# Altium footprint library ICs.PcbLib: 86 footprints (part 5 of 6)
Each footprint in its own frame and in the unit in brackets; x right, y up, seen from the top. Pads: shape width x height; smd on the part's side, far side on the other; paste and mask are expansions set on the pad; w line width, h text height; cw(c..) or ccw(c..) is an arc to the next point about the centre after c.
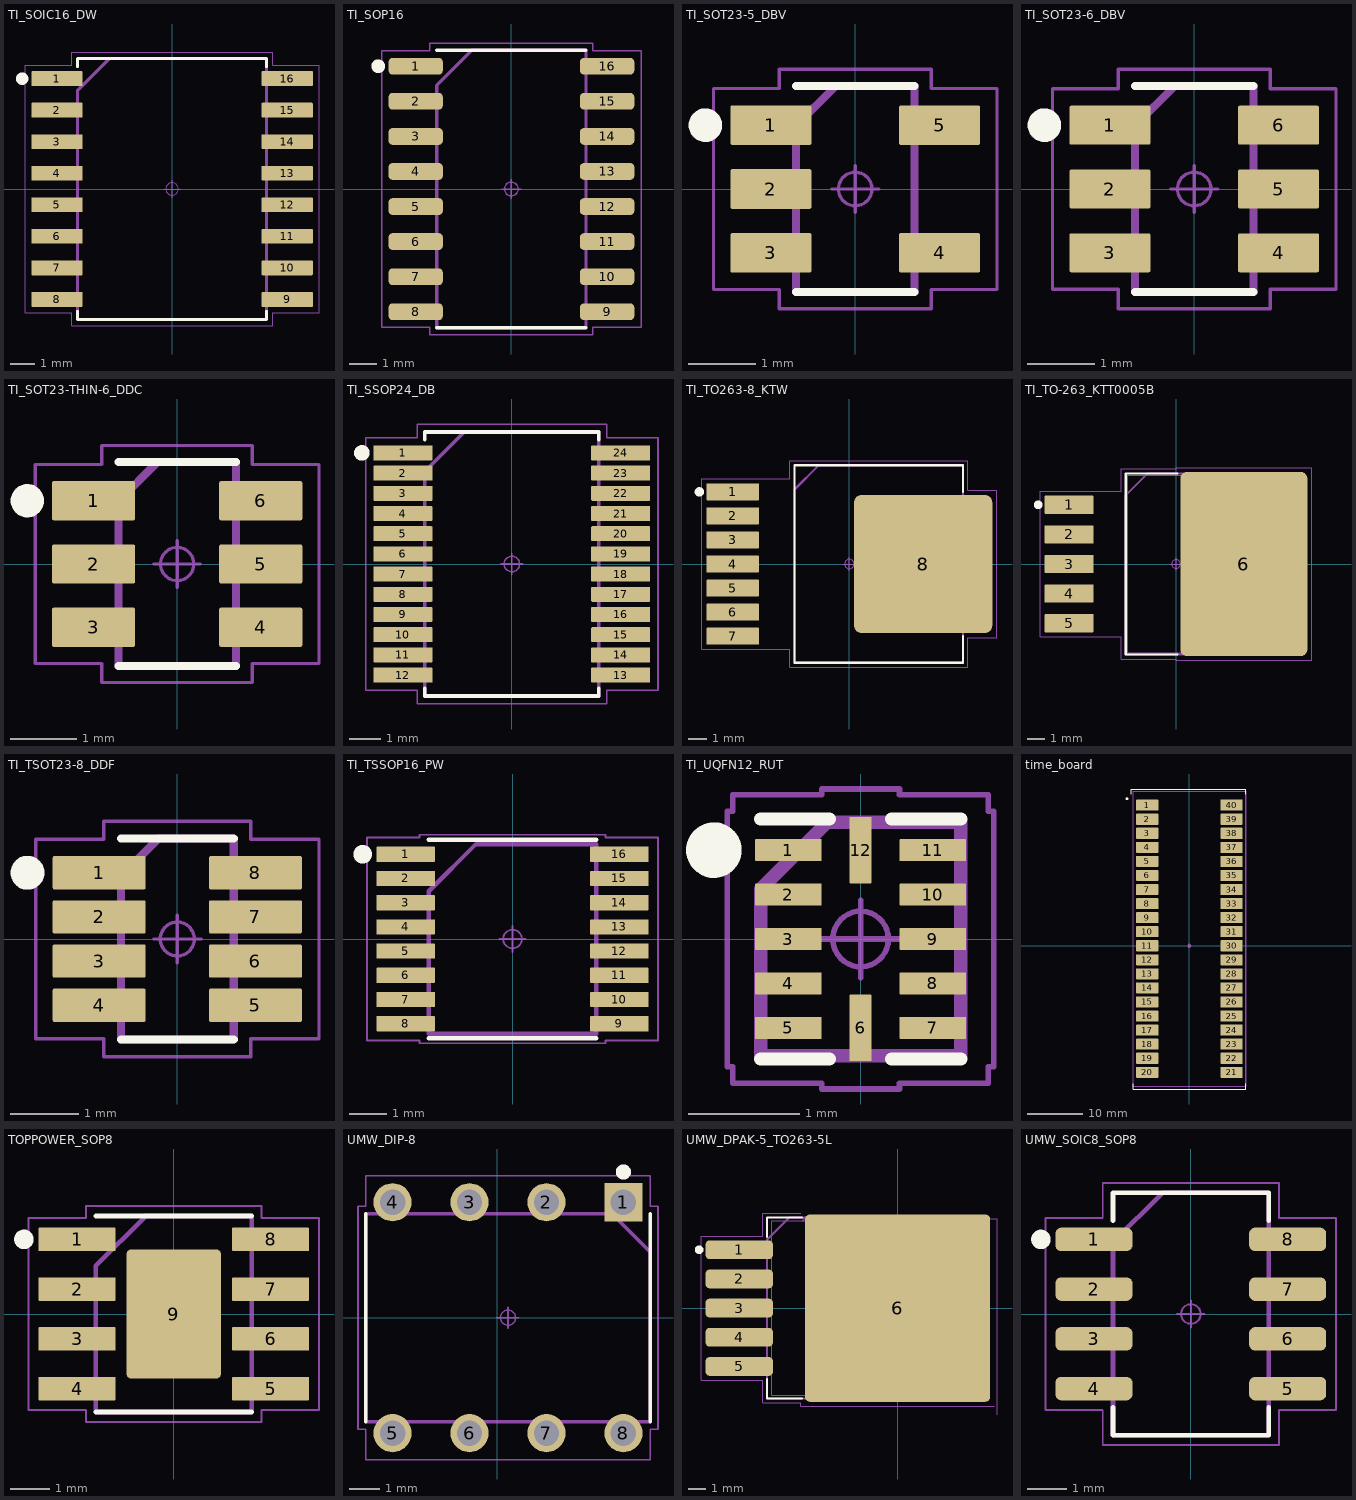
[diagram p4: the footprints below, top view; thin cyan lines are the x and y axes]

## TI_SOIC16_DW [mm] "Small Outline IC (SOIC), 1.27 mm pitch; 16 pin, 10.30 mm L X 7.50 mm W X 2.65 mm H body"
pads (16):
  rrect10% 2.06x0.6 smd: 1(-4.64,4.445) 2(-4.64,3.175) 3(-4.64,1.905) 4(-4.64,0.635) 5(-4.64,-0.635) 6(-4.64,-1.905) 7(-4.64,-3.175) 8(-4.64,-4.445) 9(4.64,-4.445) 10(4.64,-3.175) 11(4.64,-1.905) 12(4.64,-0.635) 13(4.64,0.635) 14(4.64,1.905) 15(4.64,3.175) 16(4.64,4.445)
Top Overlay:
  circle w0.25: c-6.04,4.445 r0.125
  lines w0.12: -3.8,-4.925 -3.8,-5.25 3.8,-5.25 3.8,-4.925 ; -3.8,4.925 -3.8,5.25 3.8,5.25 3.8,4.925
Mechanical 11:
  lines w0.12: -3.8,-5.25 3.8,-5.25 3.8,5.25 -2.53,5.25 -3.8,3.98 -3.8,-5.25
  text ".Designator" at -6.763,-0.679 h3
Mechanical 15:
  circle w0.05: c0,0 r0.25
  lines w0.05: -0.35,0 0.35,0 ; 0,-0.35 0,0.35 ; -5.92,-4.995 -4.05,-4.995 -4.05,-5.5 4.05,-5.5 4.05,-4.995 5.92,-4.995 5.92,4.995 4.05,4.995 4.05,5.5 -4.05,5.5 -4.05,4.995 -5.92,4.995 -5.92,-4.995
3D body "TI_SOIC16_DW.STEP": height 2.65, standoff 0, extent -5.315,-5.25 5.315,5.25

## TI_SOP16 [mm] "SOIC16P127_1002X780X200L80X43"
pads (16):
  rrect49% 1.97x0.61 smd: 1(-3.465,4.445) 2(-3.465,3.175) 3(-3.465,1.905) 4(-3.465,0.635) 5(-3.465,-0.635) 6(-3.465,-1.905) 7(-3.465,-3.175) 8(-3.465,-4.445) 9(3.465,-4.445) 10(3.465,-3.175) 11(3.465,-1.905) 12(3.465,-0.635) 13(3.465,0.635) 14(3.465,1.905) 15(3.465,3.175) 16(3.465,4.445)
Top Overlay:
  circle w0.25: c-4.82,4.445 r0.125
  lines w0.12: -2.7,-5.02 2.7,-5.02 ; -2.7,5.02 2.7,5.02
Mechanical 11:
  lines w0.12: -2.7,-5.02 -2.7,3.75 -1.43,5.02 2.7,5.02 2.7,-5.02 -2.7,-5.02
  text ".Designator" at -2.252,-0.226 h1
Mechanical 15:
  circle w0.05: c0,0 r0.25
  lines w0.05: -0.35,0 0.35,0 ; 0,-0.35 0,0.35 ; -4.7,-5 -4.7,5 -2.95,5 -2.95,5.27 2.95,5.27 2.95,5 4.7,5 4.7,-5 2.95,-5 2.95,-5.27 -2.95,-5.27 -2.95,-5 -4.7,-5
3D body "SOIC16P127_1002X780X200L80X43.STEP": height 2, standoff 0, extent -4.1,-5.02 4.1,5.02

## TI_SOT23-5_DBV [mm] "Small Outline Transistor (SOT23), 0.95 mm pitch; 5 pin, 2.90 mm L X 1.60 mm W X 1.45 mm H body"
pads (5):
  rrect10% 1.21x0.59 smd: 1(-1.255,0.95) 2(-1.255,0) 3(-1.255,-0.95) 4(1.255,-0.95) 5(1.255,0.95)
Top Overlay:
  circle w0.25: c-2.23,0.95 r0.125
  lines w0.12: -0.88,-1.53 0.88,-1.53 ; -0.88,1.53 0.88,1.53
Mechanical 11:
  lines w0.12: -0.88,-1.53 -0.88,0.943 -0.293,1.53 0.88,1.53 0.88,-1.53 -0.88,-1.53
  text ".Designator" at 0.226,-2.252 h1
Mechanical 15:
  circle w0.05: c0,0 r0.25
  lines w0.05: -0.35,0 0.35,0 ; 0,-0.35 0,0.35 ; -2.11,-1.495 -2.11,1.495 -1.13,1.495 -1.13,1.78 1.13,1.78 1.13,1.495 2.11,1.495 2.11,-1.495 1.13,-1.495 1.13,-1.78 -1.13,-1.78 -1.13,-1.495 -2.11,-1.495
3D body "TI_SOT23-5_DBV.STEP": height 1.45, standoff 0, extent -1.5,-1.525 1.5,1.525

## TI_SOT23-6_DBV [mm] "Small Outline Transistor (SOT23), 0.95 mm pitch; 6 pin, 2.90 mm L X 1.60 mm W X 1.45 mm H body"
pads (6):
  rrect10% 1.21x0.58 smd: 1(-1.255,0.95) 2(-1.255,0) 3(-1.255,-0.95) 4(1.255,-0.95) 5(1.255,0) 6(1.255,0.95)
Top Overlay:
  circle w0.25: c-2.23,0.95 r0.125
  lines w0.12: -0.88,-1.53 0.88,-1.53 ; -0.88,1.53 0.88,1.53
Mechanical 11:
  lines w0.12: -0.88,-1.53 0.88,-1.53 0.88,1.53 -0.293,1.53 -0.88,0.943 -0.88,-1.53
  text ".Designator" at 0.226,-2.252 h1
Mechanical 15:
  circle w0.05: c0,0 r0.25
  lines w0.05: -0.35,0 0.35,0 ; 0,-0.35 0,0.35 ; -2.11,-1.49 -1.13,-1.49 -1.13,-1.78 1.13,-1.78 1.13,-1.49 2.11,-1.49 2.11,1.49 1.13,1.49 1.13,1.78 -1.13,1.78 -1.13,1.49 -2.11,1.49 -2.11,-1.49
3D body "TI_SOT23-6_DBV.STEP": height 1.45, standoff 0, extent -1.5,-1.525 1.5,1.525

## TI_SOT23-THIN-6_DDC [mm] "Small Outline Transistor (SOT23), 0.95 mm pitch; 6 pin, 2.90 mm L X 1.60 mm W X 1.00 mm H body"
pads (6):
  rrect10% 1.25x0.59 smd: 1(-1.255,0.95) 2(-1.255,0) 3(-1.255,-0.95) 4(1.255,-0.95) 5(1.255,0) 6(1.255,0.95)
Top Overlay:
  circle w0.25: c-2.25,0.95 r0.125
  lines w0.12: -0.88,-1.53 0.88,-1.53 ; -0.88,1.53 0.88,1.53
Mechanical 11:
  lines w0.12: -0.88,-1.53 -0.88,0.943 -0.293,1.53 0.88,1.53 0.88,-1.53 -0.88,-1.53
  text ".Designator" at 0.226,-2.252 h1
Mechanical 15:
  circle w0.05: c0,0 r0.25
  lines w0.05: -0.35,0 0.35,0 ; 0,-0.35 0,0.35 ; -2.13,-1.495 -2.13,1.495 -1.13,1.495 -1.13,1.78 1.13,1.78 1.13,1.495 2.13,1.495 2.13,-1.495 1.13,-1.495 1.13,-1.78 -1.13,-1.78 -1.13,-1.495 -2.13,-1.495
3D body "TI_SOT23-THIN-6_DDC.STEP": height 1, standoff 0, extent -1.525,-1.525 1.525,1.525

## TI_SSOP24_DB [mm] "Small Outline Pkg (SOP), 0.65 mm pitch; 24 pin, 8.20 mm L X 5.30 mm W X 2.00 mm H body"
pads (24):
  rrect10% 1.9x0.48 smd: 1(-3.505,3.575) 2(-3.505,2.925) 3(-3.505,2.275) 4(-3.505,1.625) 5(-3.505,0.975) 6(-3.505,0.325) 7(-3.505,-0.325) 8(-3.505,-0.975) 9(-3.505,-1.625) 10(-3.505,-2.275) 11(-3.505,-2.925) 12(-3.505,-3.575) 13(3.505,-3.575) 14(3.505,-2.925) 15(3.505,-2.275) 16(3.505,-1.625) 17(3.505,-0.975) 18(3.505,-0.325) 19(3.505,0.325) 20(3.505,0.975) 21(3.505,1.625) 22(3.505,2.275) 23(3.505,2.925) 24(3.505,3.575)
Top Overlay:
  circle w0.25: c-4.825,3.575 r0.125
  lines w0.12: -2.8,-3.995 -2.8,-4.25 2.8,-4.25 2.8,-3.995 ; -2.8,3.995 -2.8,4.25 2.8,4.25 2.8,3.995
Mechanical 11:
  lines w0.12: -2.8,-4.25 2.8,-4.25 2.8,4.25 -1.53,4.25 -2.8,2.98 -2.8,-4.25
  text ".Designator" at -2.252,-0.226 h1
Mechanical 15:
  circle w0.05: c0,0 r0.25
  lines w0.05: -0.35,0 0.35,0 ; 0,-0.35 0,0.35 ; -4.705,-4.065 -3.05,-4.065 -3.05,-4.5 3.05,-4.5 3.05,-4.065 4.705,-4.065 4.705,4.065 3.05,4.065 3.05,4.5 -3.05,4.5 -3.05,4.065 -4.705,4.065 -4.705,-4.065
3D body "TI_SSOP24_DB.STEP": height 2, standoff 0, extent -4.1,-4.25 4.1,4.25

## TI_TO263-8_KTW [mm] "DPAK, 1.27 mm pitch; 7 pin, 8.64 mm L X 10.225 mm W X 4.64 mm H body"
pads (8):
  rrect10% 2.78x0.89 smd: 1(-6.16,3.81) 2(-6.16,2.54) 3(-6.16,1.27) 4(-6.16,0) 5(-6.16,-1.27) 6(-6.16,-2.54) 7(-6.16,-3.81)
  rrect10% 7.3x7.28 smd paste-7.3: 8(3.9,0)
Top Overlay:
  circle w0.25: c-7.92,3.81 r0.125
  lines w0.12: 6.01,-3.82 6.01,-5.21 -2.89,-5.21 -2.89,5.21 6.01,5.21 6.01,3.82
Top Paste:
  region: 5.985,2.085 5.985,3.375 7.275,3.375 7.275,2.085
  region: 4.165,2.085 4.165,3.375 5.455,3.375 5.455,2.085
  region: 2.345,2.085 2.345,3.375 3.635,3.375 3.635,2.085
  region: 0.525,2.085 0.525,3.375 1.815,3.375 1.815,2.085
  region: 5.985,0.265 5.985,1.555 7.275,1.555 7.275,0.265
  region: 4.165,0.265 4.165,1.555 5.455,1.555 5.455,0.265
  region: 2.345,0.265 2.345,1.555 3.635,1.555 3.635,0.265
  region: 0.525,0.265 0.525,1.555 1.815,1.555 1.815,0.265
  region: 5.985,-1.555 5.985,-0.265 7.275,-0.265 7.275,-1.555
  region: 4.165,-1.555 4.165,-0.265 5.455,-0.265 5.455,-1.555
  region: 2.345,-1.555 2.345,-0.265 3.635,-0.265 3.635,-1.555
  region: 0.525,-1.555 0.525,-0.265 1.815,-0.265 1.815,-1.555
  region: 5.985,-3.375 5.985,-2.085 7.275,-2.085 7.275,-3.375
  region: 4.165,-3.375 4.165,-2.085 5.455,-2.085 5.455,-3.375
  region: 2.345,-3.375 2.345,-2.085 3.635,-2.085 3.635,-3.375
  region: 0.525,-3.375 0.525,-2.085 1.815,-2.085 1.815,-3.375
Mechanical 11:
  lines w0.12: -2.89,-5.21 6.01,-5.21 6.01,5.21 -1.62,5.21 -2.89,3.94 -2.89,-5.21
  text ".Designator" at -4.511,-0.453 h2
Mechanical 15:
  circle w0.05: c0,0 r0.25
  lines w0.05: -0.35,0 0.35,0 ; 0,-0.35 0,0.35 ; -7.8,-4.505 -3.14,-4.505 -3.14,-5.46 6.26,-5.46 6.26,-3.89 7.8,-3.89 7.8,3.89 6.26,3.89 6.26,5.46 -3.14,5.46 -3.14,4.505 -7.8,4.505 -7.8,-4.505
3D body "TI_TO263-8_KTW.STEP": height 4.64, standoff 0, extent -7.175,-5.205 7.175,5.205

## TI_TO-263_KTT0005B [mm] "DPAK, 1.70 mm pitch; 5 pin, 8.64 mm L X 10.225 mm W X 4.65 mm H body"
pads (6):
  rrect10% 2.82x1.05 smd: 1(-6.14,3.4) 2(-6.14,1.7) 3(-6.14,0) 4(-6.14,-1.7) 5(-6.14,-3.4)
  rrect10% 7.3x10.58 smd paste-10.58: 6(3.9,0)
Top Overlay:
  circle w0.25: c-7.92,3.4 r0.125
  lines w0.12: 0.07,-5.21 -2.89,-5.21 -2.89,5.21 0.07,5.21
Top Paste:
  region: 5.54,3.73 5.54,5.07 7.14,5.07 7.14,3.73
  region: 3.1,3.73 3.1,5.07 4.7,5.07 4.7,3.73
  region: 0.66,3.73 0.66,5.07 2.26,5.07 2.26,3.73
  region: 5.54,1.97 5.54,3.31 7.14,3.31 7.14,1.97
  region: 3.1,1.97 3.1,3.31 4.7,3.31 4.7,1.97
  region: 0.66,1.97 0.66,3.31 2.26,3.31 2.26,1.97
  region: 5.54,0.21 5.54,1.55 7.14,1.55 7.14,0.21
  region: 3.1,0.21 3.1,1.55 4.7,1.55 4.7,0.21
  region: 0.66,0.21 0.66,1.55 2.26,1.55 2.26,0.21
  region: 5.54,-1.55 5.54,-0.21 7.14,-0.21 7.14,-1.55
  region: 3.1,-1.55 3.1,-0.21 4.7,-0.21 4.7,-1.55
  region: 0.66,-1.55 0.66,-0.21 2.26,-0.21 2.26,-1.55
  region: 5.54,-3.31 5.54,-1.97 7.14,-1.97 7.14,-3.31
  region: 3.1,-3.31 3.1,-1.97 4.7,-1.97 4.7,-3.31
  region: 0.66,-3.31 0.66,-1.97 2.26,-1.97 2.26,-3.31
  region: 5.54,-5.07 5.54,-3.73 7.14,-3.73 7.14,-5.07
  region: 3.1,-5.07 3.1,-3.73 4.7,-3.73 4.7,-5.07
  region: 0.66,-5.07 0.66,-3.73 2.26,-3.73 2.26,-5.07
Mechanical 11:
  lines w0.12: -2.89,-5.21 6.01,-5.21 6.01,5.21 -1.62,5.21 -2.89,3.94 -2.89,-5.21
  text ".Designator" at -4.511,-0.453 h2
Mechanical 12:
  lines w0.025: -2.76,-5.112 5.88,-5.112 5.88,5.112 -2.76,5.112 -2.76,-5.112
Mechanical 15:
  circle w0.05: c0,0 r0.25
  lines w0.05: -0.35,0 0.35,0 ; 0,-0.35 0,0.35 ; -7.8,-4.175 -3.14,-4.175 -3.14,-5.46 0,-5.46 0,-5.54 7.8,-5.54 7.8,5.54 0,5.54 0,5.46 -3.14,5.46 -3.14,4.175 -7.8,4.175 -7.8,-4.175
3D body "TI_TO-263_KTT0005B.STEP": height 4.65, standoff 0, extent -7.175,-5.205 7.175,5.205

## TI_TSOT23-8_DDF [mm] "Small Outline Transistor (SOT23), 0.65 mm pitch; 8 pin, 2.90 mm L X 1.60 mm W X 1.10 mm H body"
pads (8):
  rrect10% 1.37x0.49 smd: 1(-1.15,0.975) 2(-1.15,0.325) 3(-1.15,-0.325) 4(-1.15,-0.975) 5(1.15,-0.975) 6(1.15,-0.325) 7(1.15,0.325) 8(1.15,0.975)
Top Overlay:
  circle w0.25: c-2.205,0.975 r0.125
  lines w0.12: -0.83,-1.48 0.83,-1.48 ; -0.83,1.48 0.83,1.48
Mechanical 11:
  lines w0.12: -0.83,-1.48 0.83,-1.48 0.83,1.48 -0.277,1.48 -0.83,0.927 -0.83,-1.48
  text ".Designator" at 0.339,-3.378 h1.5
Mechanical 15:
  circle w0.05: c0,0 r0.25
  lines w0.05: -0.35,0 0.35,0 ; 0,-0.35 0,0.35 ; -2.085,-1.47 -1.08,-1.47 -1.08,-1.73 1.08,-1.73 1.08,-1.47 2.085,-1.47 2.085,1.47 1.08,1.47 1.08,1.73 -1.08,1.73 -1.08,1.47 -2.085,1.47 -2.085,-1.47
3D body "TI_TSOT23-8_DDF8.STEP": height 1.1, standoff 0, extent -1.475,-1.475 1.475,1.475

## TI_TSSOP16_PW [mm] "Small Outline Pkg (SOP), 0.65 mm pitch; 16 pin, 5.00 mm L X 4.40 mm W X 1.20 mm H body"
pads (16):
  rrect10% 1.57x0.41 smd: 1(-2.87,2.275) 2(-2.87,1.625) 3(-2.87,0.975) 4(-2.87,0.325) 5(-2.87,-0.325) 6(-2.87,-0.975) 7(-2.87,-1.625) 8(-2.87,-2.275) 9(2.87,-2.275) 10(2.87,-1.625) 11(2.87,-0.975) 12(2.87,-0.325) 13(2.87,0.325) 14(2.87,0.975) 15(2.87,1.625) 16(2.87,2.275)
Top Overlay:
  circle w0.25: c-4.025,2.275 r0.125
  lines w0.12: -2.25,-2.66 2.25,-2.66 ; -2.25,2.66 2.25,2.66
Mechanical 11:
  lines w0.12: -2.25,-2.55 -2.25,1.28 -0.98,2.55 2.25,2.55 2.25,-2.55 -2.25,-2.55
  text ".Designator" at -2.252,-0.226 h1
Mechanical 15:
  circle w0.05: c0,0 r0.25
  lines w0.05: -0.35,0 0.35,0 ; 0,-0.35 0,0.35 ; -3.905,-2.73 -3.905,2.73 -2.5,2.73 -2.5,2.8 2.5,2.8 2.5,2.73 3.905,2.73 3.905,-2.73 2.5,-2.73 2.5,-2.8 -2.5,-2.8 -2.5,-2.73 -3.905,-2.73
3D body "TI_TSSOP16_PW.STEP": height 1.2, standoff 0, extent -3.3,-2.55 3.3,2.55

## TI_UQFN12_RUT [mm] "Quad Flat No-Lead (QFN), 0.40 mm pitch; rect., 5 pin X 1 pin, 2.00 mm L X 1.70 mm W X 0.55 mm H body"
pads (12):
  rrect10% 0.6x0.2 smd: 1(-0.65,0.8) 2(-0.65,0.4) 3(-0.65,0) 4(-0.65,-0.4) 5(-0.65,-0.8) 7(0.65,-0.8) 8(0.65,-0.4) 9(0.65,0) 10(0.65,0.4) 11(0.65,0.8)
  rrect10% 0.2x0.6 smd: 6(0,-0.8) 12(0,0.8)
Top Overlay:
  circle w0.25: c-1.32,0.8 r0.125
  lines w0.12: -0.9,-1.08 -0.28,-1.08 ; -0.9,1.08 -0.28,1.08 ; 0.28,-1.08 0.9,-1.08 ; 0.28,1.08 0.9,1.08
Mechanical 11:
  lines w0.12: -0.9,-1.05 0.9,-1.05 0.9,1.05 -0.3,1.05 -0.9,0.45 -0.9,-1.05
  text ".Designator" at 0.226,-2.252 h1
Mechanical 15:
  circle w0.05: c0,0 r0.25
  lines w0.05: -0.35,0 0.35,0 ; 0,-0.35 0,0.35 ; -1.2,-1.15 -1.15,-1.15 -1.15,-1.3 -0.35,-1.3 -0.35,-1.35 0.35,-1.35 0.35,-1.3 1.15,-1.3 1.15,-1.15 1.2,-1.15 1.2,1.15 1.15,1.15 1.15,1.3 0.35,1.3 0.35,1.35 -0.35,1.35 -0.35,1.3 -1.15,1.3 -1.15,1.15 -1.2,1.15 -1.2,-1.15
3D body "TI_UQFN12_RUT.STEP": height 0.55, standoff 0, extent -0.95,-1.1 0.95,1.1

## time_board [mm] "2.54 mm pitch; 40 pin, 53.34mm L X 15.24 mm ody"
pads (40):
  rrect10% 4x2 smd: 1(-7.62,25.4) 2(-7.62,22.86) 3(-7.62,20.32) 4(-7.62,17.78) 5(-7.62,15.24) 6(-7.62,12.7) 7(-7.62,10.16) 8(-7.62,7.62) 9(-7.62,5.08) 10(-7.62,2.54) 11(-7.62,0) 12(-7.62,-2.54) 13(-7.62,-5.08) 14(-7.62,-7.62) 15(-7.62,-10.16) 16(-7.62,-12.7) 17(-7.62,-15.24) 18(-7.62,-17.78) 19(-7.62,-20.32) 20(-7.62,-22.86) 21(7.62,-22.86) 22(7.62,-20.32) 23(7.62,-17.78) 24(7.62,-15.24) 25(7.62,-12.7) 26(7.62,-10.16) 27(7.62,-7.62) 28(7.62,-5.08) 29(7.62,-2.54) 30(7.62,0) 31(7.62,2.54) 32(7.62,5.08) 33(7.62,7.62) 34(7.62,10.16) 35(7.62,12.7) 36(7.62,15.24) 37(7.62,17.78) 38(7.62,20.32) 39(7.62,22.86) 40(7.62,25.4)
Top Overlay:
  circle w0.25: c-11.265,26.57 r0.125
  lines w0.12: -10.54,27.365 -10.54,28.32 10.16,28.32 10.16,27.365 ; -10.16,-24.923 -10.16,-25.877 10.16,-25.877 10.16,-24.923
Mechanical 11:
  lines w0.12: -10.16,-25.4 -10.16,27.94 10.16,27.94 10.16,-25.4 -10.16,-25.4
  text ".Designator" at -4.579,-0.46 h2.03
Mechanical 15:
  circle w0.05: c0,0 r0.25
  lines w0.05: -0.35,0 0.35,0 ; 0,-0.35 0,0.35 ; -10.16,-25.4 10.16,-25.4 10.16,-7.115 10.16,4.575 10.16,27.94 -10.16,27.94 -10.16,7.115 -10.16,-7.62 -10.16,-25.4
3D body: height 2.54, standoff -2.54, extent -7.62,-22.86 7.62,25.4

## TOPPOWER_SOP8 [mm] "TOP power SOIC-8"
pads (9):
  rrect10% 1.97x0.6 smd: 1(-2.47,1.905) 2(-2.47,0.635) 3(-2.47,-0.635) 4(-2.47,-1.905) 5(2.47,-1.905) 6(2.47,-0.635) 7(2.47,0.635) 8(2.47,1.905)
  rrect10% 2.413x3.302 smd paste-3: 9(0,0)
Top Overlay:
  circle w0.25: c-3.825,1.905 r0.125
  lines w0.12: -1.99,-2.5 1.99,-2.5 ; -1.99,2.5 1.99,2.5
Top Paste:
  rectangle: 0.25,-1.5 1,-0.75
  rectangle: -1,-1.5 -0.25,-0.75
  rectangle: 0.25,-0.25 1,0.25
  rectangle: -1,-0.25 -0.25,0.25
  rectangle: 0.25,0.75 1,1.5
  rectangle: -1,0.75 -0.25,1.5
Mechanical 11:
  lines w0.12: -1.99,-2.5 1.99,-2.5 1.99,2.5 -0.72,2.5 -1.99,1.23 -1.99,-2.5
  text ".Designator" at -2.252,-0.226 h1
Mechanical 15:
  circle w0.05: c0,0 r0.25
  lines w0.05: -0.35,0 0.35,0 ; 0,-0.35 0,0.35 ; -3.705,-2.455 -2.24,-2.455 -2.24,-2.75 2.24,-2.75 2.24,-2.455 3.705,-2.455 3.705,2.455 2.24,2.455 2.24,2.75 -2.24,2.75 -2.24,2.455 -3.705,2.455 -3.705,-2.455
3D body "TI_SOIC8_D.STEP": height 1.75, standoff 0, extent -3.095,-2.5 3.095,2.5

## UMW_DIP-8 [mm] "DIP, 7.62 mm lead span, 2.54 mm pitch; 8 pin, 9.40 mm L X 6.86 mm W X 5.08 mm H body"
pads (8):
  rect 1.26x1.26 hole 0.84 paste-2539.97: 1(4.16,3.81)
  round 1.26 hole 0.84 paste-2539.97: 2(1.62,3.81) 3(-0.92,3.81) 4(-3.46,3.81) 5(-3.46,-3.81) 6(-0.92,-3.81) 7(1.62,-3.81) 8(4.16,-3.81)
Top Overlay:
  circle w0.25: c4.16,4.81 r0.125
  lines w0.12: -4.35,-3.43 -4.35,3.43 ; 5.05,-3.43 5.05,3.43
Mechanical 11:
  lines w0.12: -4.35,-3.43 -4.35,3.43 3.78,3.43 5.05,2.16 5.05,-3.43 -4.35,-3.43
  text ".Designator" at -1.902,-0.226 h1
Mechanical 15:
  circle w0.05: c0.35,0 r0.25
  lines w0.05: 0,0 0.7,0 ; 0.35,-0.35 0.35,0.35 ; -4.6,-3.68 -4.34,-3.68 -4.34,-4.69 5.04,-4.69 5.04,-3.68 5.3,-3.68 5.3,3.68 5.04,3.68 5.04,4.69 -4.34,4.69 -4.34,3.68 -4.6,3.68 -4.6,-3.68
3D body "DIP762W48P254L940H508Q8.STEP": height 5.08, standoff -2, extent -4.35,-4.01 5.05,4.01

## UMW_DPAK-5_TO263-5L [mm] "DPAK-5 (TO263-5L) for dc/dc by UMW and DIODES inc."
pads (6):
  rrect45% 3.93x1.1 smd: 1(-9.23,3.4) 2(-9.23,1.7) 3(-9.23,0) 4(-9.23,-1.7) 5(-9.23,-3.4)
  rrect5% 10.79x10.92 smd paste-10.92: 6(0,0)
Top Overlay:
  circle w0.25: c-11.565,3.4 r0.125
  lines w0.12: -7.6,-4.13 -7.6,-5.27 -5.575,-5.27 ; -7.6,4.13 -7.6,5.27 -5.575,5.27
Top Paste:
  drawing of 36 lines, arcs and shapes, not listed
Mechanical 11:
  lines w0.12: -7.6,-5.27 2.06,-5.27 2.06,5.27 -6.33,5.27 -7.6,4 -7.6,-5.27
  text ".Designator" at -5.152,-0.226 h1
Mechanical 12:
  lines w0.025: -7.345,-5.08 1.805,-5.08 1.805,5.08 -7.345,5.08 -7.345,-5.08
Mechanical 15:
  circle w0.05: c-2.9,0 r0.25
  lines w0.05: -5.645,5.52 -7.85,5.52 -7.85,4.2 -11.445,4.2 -11.445,-4.2 -7.85,-4.2 -7.85,-5.52 -5.645,-5.52 -5.645,-5.71 5.645,-5.71 ; -5.495,5.02 -5.495,5.21 5.795,5.21 5.795,-6.21 ; -3.25,0 -2.55,0 ; -2.9,-0.35 -2.9,0.35
3D body "DPAK6P170_1524X485L254X84T945X1075.STEP": height 4.85, standoff 0, extent -10.84,-5.375 5.04,5.375

## UMW_SOIC8_SOP8 [mm] "Small Outline IC (SOIC), 1.27 mm pitch; 8 pin, 6.096 mm L X 3.899 mm W X 1.727 mm H body"
pads (8):
  rrect50% 1.97x0.6 smd: 1(-2.475,1.905) 2(-2.475,0.635) 3(-2.475,-0.635) 4(-2.475,-1.905) 5(2.475,-1.905) 6(2.475,-0.635) 7(2.475,0.635) 8(2.475,1.905)
Top Overlay:
  circle w0.25: c-3.83,1.905 r0.125
  lines w0.12: -1.99,-2.385 -1.99,-3.1 1.99,-3.1 1.99,-2.385 ; -1.99,2.385 -1.99,3.1 1.99,3.1 1.99,2.385
Mechanical 11:
  lines w0.12: -1.99,-3.1 1.99,-3.1 1.99,3.1 -0.72,3.1 -1.99,1.83 -1.99,-3.1
  text ".Designator" at -2.252,-0.226 h1
Mechanical 15:
  circle w0.05: c0,0 r0.25
  lines w0.05: -0.35,0 0.35,0 ; 0,-0.35 0,0.35 ; -3.71,-2.455 -2.25,-2.455 -2.25,-3.35 2.25,-3.35 2.25,-2.455 3.71,-2.455 3.71,2.455 2.25,2.455 2.25,3.35 -2.25,3.35 -2.25,2.455 -3.71,2.455 -3.71,-2.455
3D body "SOIC8P127_609X599X172L82X41.STEP": height 1.73, standoff 0, extent -3.099,-3.099 3.099,3.099